# EAGLE library part DUAL_RELAY (library LX_Eagle_Lib)
Dual Solid State Relay 1 Form A (SPST-NO), 1 Form B (SPST-NC)
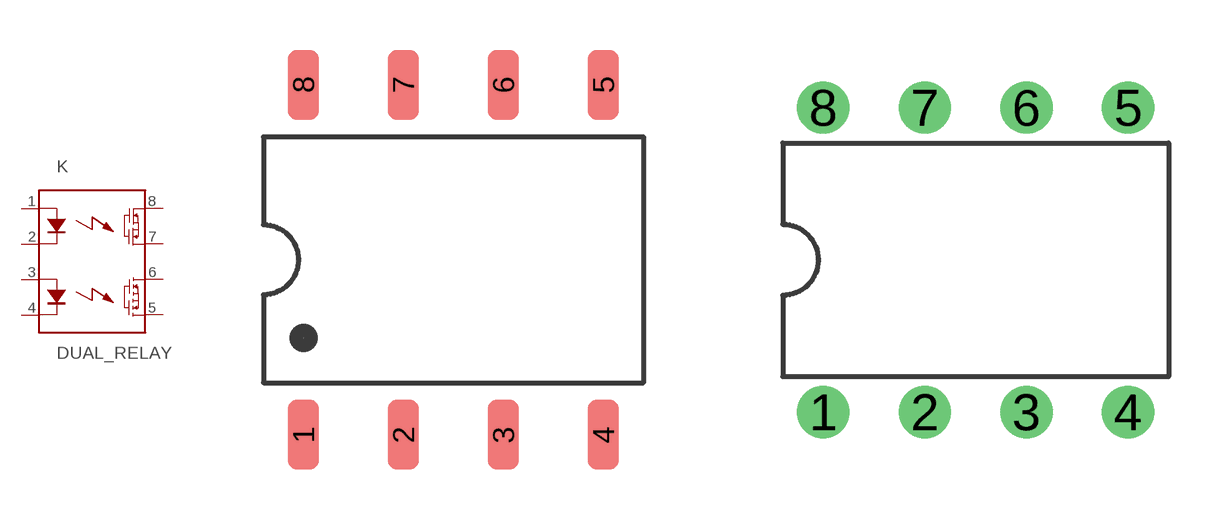
[diagram p6: symbol with the pads of DIP8-SMD; footprints DIP8-SMD, DIP8-TH]

Designator prefix K

## DUAL_RELAY_SMD  [DIP8-SMD]
1  A1  pas
2  C1  pas
3  A2  pas
4  C2  pas
5  D4  pas
6  D3  pas
7  D2  pas
8  D1  pas

## DUAL_RELAY_TH  [DIP8-TH]
Pads as for DIP8-SMD

## Footprint DIP8-SMD (pad centres in mm)
IXYS LBA710, SMD DIP-8 Gull Wing Solid State Relay, 1 Form A (SPST-NO), 1 Form B (SPST-NC) Control Voltage: 0.9 to 1.4 VDC Max Load: 60 VDC, 1A Mfr. #: LBA710S Mouser #: 849-LBA710S DigiKey #: LBA710STR-ND
smd 0.787 x 1.778: 1 -3.81,-4.449; 2 -1.27,-4.449; 3 1.27,-4.449; 4 3.81,-4.449; 5 3.81,4.449; 6 1.27,4.449; 7 -1.27,4.449; 8 -3.81,4.449

## Footprint DIP8-TH (pad centres in mm)
IXYS LBA710, DIP-8 TH Solid State Relay, 1 Form A (SPST-NO), 1 Form B (SPST-NC) Control Voltage: 0.9 to 1.4 VDC Max Load: 60 VDC, 1A Mfr. #: LBA710 Mouser #: 849-LBA710 DigiKey #: CLA378-ND
drill 0.8: 1 -3.81,-3.81; 2 -1.27,-3.81; 3 1.27,-3.81; 4 3.81,-3.81; 5 3.81,3.81; 6 1.27,3.81; 7 -1.27,3.81; 8 -3.81,3.81